# Altium footprint library L16.PcbLib: 19 footprints (part 2 of 2)
Each footprint in its own frame and in the unit in brackets; x right, y up, seen from the top. Pads: shape width x height; smd on the part's side, far side on the other; paste and mask are expansions set on the pad; w line width, h text height; cw(c..) or ccw(c..) is an arc to the next point about the centre after c.
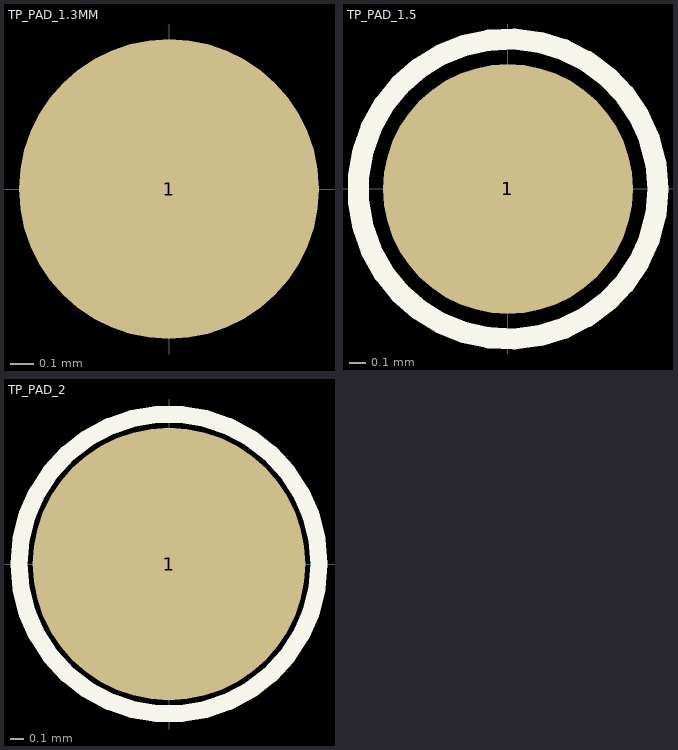
[diagram p1: the footprints below, top view; thin cyan lines are the x and y axes]

## TP_PAD_1.3MM [mm] "Small SMD testpoint 1.3MM"
pads (1):
  round 1.3 smd paste+0 mask+0: 1(0,0)

## TP_PAD_1.5 [mm]
pads (1):
  round 1.5 smd paste+0: 1(0,0)
Top Overlay:
  circle w0.127: c0,0 r0.9

## TP_PAD_2 [mm]
pads (1):
  round 2 smd paste+0: 1(0,0)
Top Overlay:
  circle w0.127: c0,0 r1.1